# EAGLE library part ADAR1000ACCZN (library My_Library_RADAR)
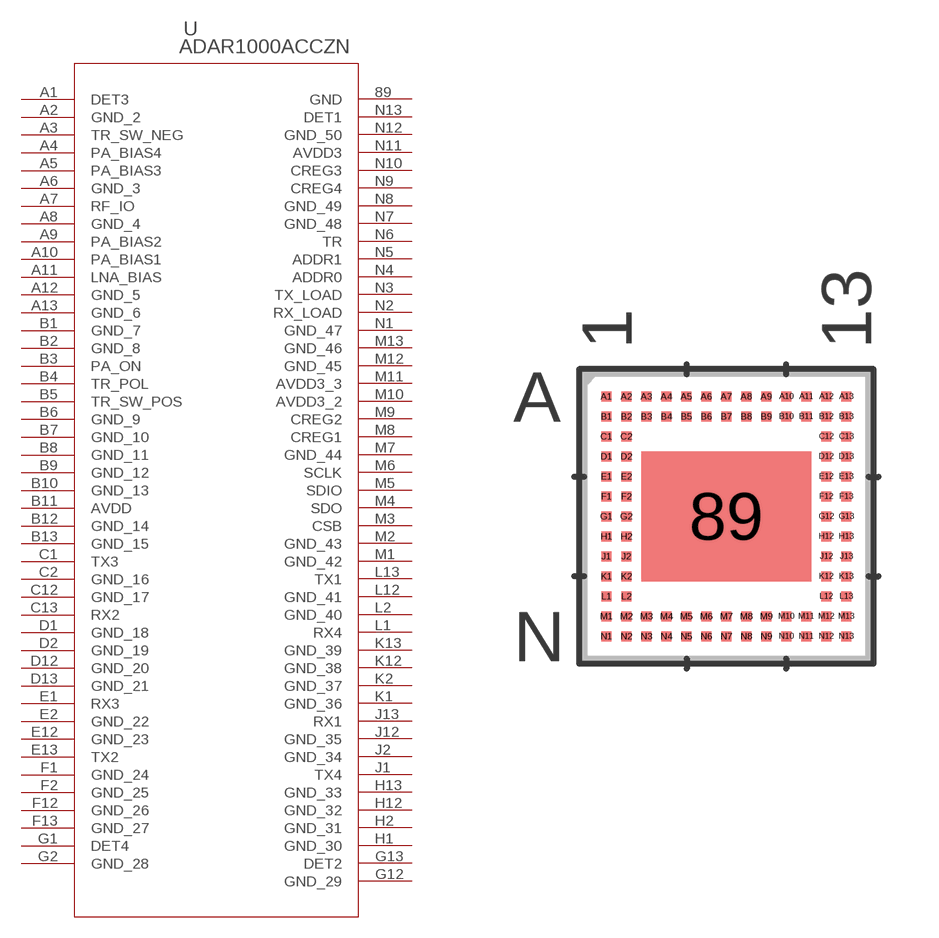
[diagram p0: symbol with the pads of CC-88-1_ADI; footprint CC-88-1_ADI]

Designator prefix U

## ADAR1000ACCZN (COPYRIGHT: Copyright (C) 2024 Ultra Librarian. All rights reserved.; MANUFACTURER_PART_NUMBER: ADAR1000ACCZN; MFR_NAME: Analog Devices Inc; TYPE: RF)  [CC-88-1_ADI]
89  GND  pas
A1  DET3  in
A2  GND_2  pas
A3  TR_SW_NEG  out
A4  PA_BIAS4  out
A5  PA_BIAS3  out
A6  GND_3  pas
A7  RF_IO
A8  GND_4  pas
A9  PA_BIAS2  out
A10  PA_BIAS1  out
A11  LNA_BIAS  out
A12  GND_5  pas
A13  GND_6  pas
B1  GND_7  pas
B2  GND_8  pas
B3  PA_ON  in
B4  TR_POL  out
B5  TR_SW_POS  out
B6  GND_9  pas
B7  GND_10  pas
B8  GND_11  pas
B9  GND_12  pas
B10  GND_13  pas
B11  AVDD  pwr
B12  GND_14  pas
B13  GND_15  pas
C1  TX3  out
C2  GND_16  pas
C12  GND_17  pas
C13  RX2  in
D1  GND_18  pas
D2  GND_19  pas
D12  GND_20  pas
D13  GND_21  pas
E1  RX3  in
E2  GND_22  pas
E12  GND_23  pas
E13  TX2  out
F1  GND_24  pas
F2  GND_25  pas
F12  GND_26  pas
F13  GND_27  pas
G1  DET4  in
G2  GND_28  pas
G12  GND_29  pas
G13  DET2  in
H1  GND_30  pas
H2  GND_31  pas
H12  GND_32  pas
H13  GND_33  pas
J1  TX4  out
J2  GND_34  pas
J12  GND_35  pas
J13  RX1  in
K1  GND_36  pas
K2  GND_37  pas
K12  GND_38  pas
K13  GND_39  pas
L1  RX4  in
L2  GND_40  pas
L12  GND_41  pas
L13  TX1  out
M1  GND_42  pas
M2  GND_43  pas
M3  CSB  in
M4  SDO  out
M5  SDIO
M6  SCLK  in
M7  GND_44  pas
M8  CREG1  pwr
M9  CREG2  pwr
M10  AVDD3_2  pwr
M11  AVDD3_3  pwr
M12  GND_45  pas
M13  GND_46  pas
N1  GND_47  pas
N2  RX_LOAD  in
N3  TX_LOAD  in
N4  ADDR0  in
N5  ADDR1  in
N6  TR  in
N7  GND_48  pas
N8  GND_49  pas
N9  CREG4  pwr
N10  CREG3  pwr
N11  AVDD3  pwr
N12  GND_50  pas
N13  DET1  in

## Footprint CC-88-1_ADI (pad centres in mm)
smd 4.242 x 3.251: 89 0,0
smd 0.254 x 0.254: A1 -3,3; A2 -2.5,3; A3 -2,3; A4 -1.5,3; A5 -1,3; A6 -0.5,3; A7 0,3; A8 0.5,3; A9 1,3; A10 1.5,3; A11 2,3; A12 2.5,3; A13 3,3; B1 -3,2.5; B2 -2.5,2.5; B3 -2,2.5; B4 -1.5,2.5; B5 -1,2.5; B6 -0.5,2.5; B7 0,2.5; B8 0.5,2.5; B9 1,2.5; B10 1.5,2.5; B11 2,2.5; B12 2.5,2.5; B13 3,2.5; C1 -3,2; C2 -2.5,2; C12 2.5,2; C13 3,2; D1 -3,1.5; D2 -2.5,1.5; D12 2.5,1.5; D13 3,1.5; E1 -3,1; E2 -2.5,1; E12 2.5,1; E13 3,1; F1 -3,0.5; F2 -2.5,0.5; F12 2.5,0.5; F13 3,0.5; G1 -3,0; G2 -2.5,0; G12 2.5,0; G13 3,0; H1 -3,-0.5; H2 -2.5,-0.5; H12 2.5,-0.5; H13 3,-0.5; J1 -3,-1; J2 -2.5,-1; J12 2.5,-1; J13 3,-1; K1 -3,-1.5; K2 -2.5,-1.5; K12 2.5,-1.5; K13 3,-1.5; L1 -3,-2; L2 -2.5,-2; L12 2.5,-2; L13 3,-2; M1 -3,-2.5; M2 -2.5,-2.5; M3 -2,-2.5; M4 -1.5,-2.5; M5 -1,-2.5; M6 -0.5,-2.5; M7 0,-2.5; M8 0.5,-2.5; M9 1,-2.5; M10 1.5,-2.5; M11 2,-2.5; M12 2.5,-2.5; M13 3,-2.5; N1 -3,-3; N2 -2.5,-3; N3 -2,-3; N4 -1.5,-3; N5 -1,-3; N6 -0.5,-3; N7 0,-3; N8 0.5,-3; N9 1,-3; N10 1.5,-3; N11 2,-3; N12 2.5,-3; N13 3,-3